# EAGLE library part ADIS1650X (library ADI_iSensor_Libraries)
ADIS1650x - Precision, Miniature MEMS Inertial Measurement Unit (IMU) The ADIS1650x is a precision, miniature microelectromechanical system (MEMS) inertial measurement unit (IMU) that includes a triaxial gyroscope and a triaxial accelerometer. Each inertial sensor in the ADIS1650x combines with signal conditioning that optimizes dynamic performance. The factory calibration characterizes each sensor for sensitivity, bias, alignment, linear acceleration (gyroscope bias), and point of percussion (accelerometer location). As a result, each sensor has dynamic compensation formulas that provide accurate sensor measurements over a broad set of conditions. The ADIS1650x provides a simplified, cost effective method for integrating accurate, multi-axis inertial sensing into industrial systems, especially when compared with the complexity and investment associated with discrete designs. All necessary motion testing and calibration are part of the production process at the factory, greatly reducing system integration time. Tight orthogonal alignment simplifies inertial frame alignment in navigation systems. The serial peripheral interface (SPI) and register structure provide a simple interface for data collection and configuration control. The ADIS1650x is available in a 100-ball, ball grid array (BGA) package that is approximately 15 mm × 15 mm × 5 mm. You are welcome to use this library for commercial purposes. For attribution, I ask that you reach out by sending me a link to the product being sold. My e-mail address is: juan@highcurrent.io
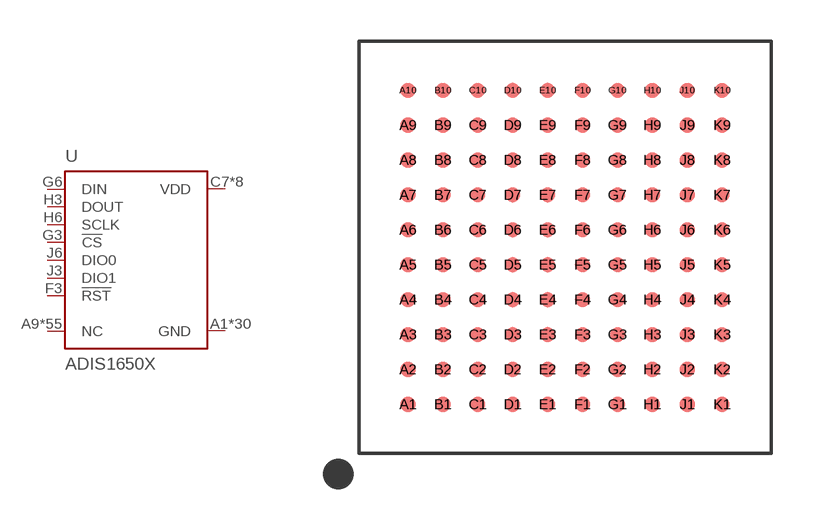
[diagram p5: symbol with the pads of ADIS1650X; footprint ADIS1650X]

Designator prefix U

## ADIS1650X  [ADIS1650X]
A1  GND
A2  GND
A3  GND
A4  GND
A5  GND
A6  GND
A7  GND
A8  GND
A9  NC
A10  NC
B1  NC
B2  NC
B3  GND
B4  GND
B5  GND
B6  GND
B7  NC
B8  NC
B9  NC
B10  NC
C1  NC
C2  GND
C3  NC
C4  NC
C5  NC
C6  GND
C7  VDD
C8  NC
C9  NC
C10  NC
D1  NC
D2  NC
D3  GND
D4  NC
D5  NC
D6  VDD
D7  NC
D8  NC
D9  NC
D10  NC
E1  NC
E2  GND
E3  VDD
E4  NC
E5  NC
E6  GND
E7  GND
E8  NC
E9  NC
E10  NC
F1  GND
F2  NC
F3  !RST
F4  NC
F5  GND
F6  GND
F7  NC
F8  GND
F9  NC
F10  NC
G1  VDD
G2  GND
G3  !CS
G4  NC
G5  NC
G6  DIN
G7  GND
G8  NC
G9  NC
G10  NC
H1  VDD
H2  NC
H3  DOUT
H4  NC
H5  NC
H6  SCLK
H7  NC
H8  GND
H9  NC
H10  NC
J1  NC
J2  GND
J3  DIO1
J4  VDD
J5  VDD
J6  DIO0
J7  GND
J8  NC
J9  NC
J10  NC
K1  GND
K2  NC
K3  GND
K4  NC
K5  NC
K6  VDD
K7  NC
K8  GND
K9  NC
K10  NC

## Footprint ADIS1650X (pad centres in mm)
smd 0.56 x 0.56: A1 0,0; A2 0,1.27; A3 0,2.54; A4 0,3.81; A5 0,5.08; A6 0,6.35; A7 0,7.62; A8 0,8.89; A9 0,10.16; A10 0,11.43; B1 1.27,0; B2 1.27,1.27; B3 1.27,2.54; B4 1.27,3.81; B5 1.27,5.08; B6 1.27,6.35; B7 1.27,7.62; B8 1.27,8.89; B9 1.27,10.16; B10 1.27,11.43; C1 2.54,0; C2 2.54,1.27; C3 2.54,2.54; C4 2.54,3.81; C5 2.54,5.08; C6 2.54,6.35; C7 2.54,7.62; C8 2.54,8.89; C9 2.54,10.16; C10 2.54,11.43; D1 3.81,0; D2 3.81,1.27; D3 3.81,2.54; D4 3.81,3.81; D5 3.81,5.08; D6 3.81,6.35; D7 3.81,7.62; D8 3.81,8.89; D9 3.81,10.16; D10 3.81,11.43; E1 5.08,0; E2 5.08,1.27; E3 5.08,2.54; E4 5.08,3.81; E5 5.08,5.08; E6 5.08,6.35; E7 5.08,7.62; E8 5.08,8.89; E9 5.08,10.16; E10 5.08,11.43; F1 6.35,0; F2 6.35,1.27; F3 6.35,2.54; F4 6.35,3.81; F5 6.35,5.08; F6 6.35,6.35; F7 6.35,7.62; F8 6.35,8.89; F9 6.35,10.16; F10 6.35,11.43; G1 7.62,0; G2 7.62,1.27; G3 7.62,2.54; G4 7.62,3.81; G5 7.62,5.08; G6 7.62,6.35; G7 7.62,7.62; G8 7.62,8.89; G9 7.62,10.16; G10 7.62,11.43; H1 8.89,0; H2 8.89,1.27; H3 8.89,2.54; H4 8.89,3.81; H5 8.89,5.08; H6 8.89,6.35; H7 8.89,7.62; H8 8.89,8.89; H9 8.89,10.16; H10 8.89,11.43; J1 10.16,0; J2 10.16,1.27; J3 10.16,2.54; J4 10.16,3.81; J5 10.16,5.08; J6 10.16,6.35; J7 10.16,7.62; J8 10.16,8.89; J9 10.16,10.16; J10 10.16,11.43; K1 11.43,0; K2 11.43,1.27; K3 11.43,2.54; K4 11.43,3.81; K5 11.43,5.08; K6 11.43,6.35; K7 11.43,7.62; K8 11.43,8.89; K9 11.43,10.16; K10 11.43,11.43